# EAGLE library part DF11-8DP-2DS(52) (library DF11)
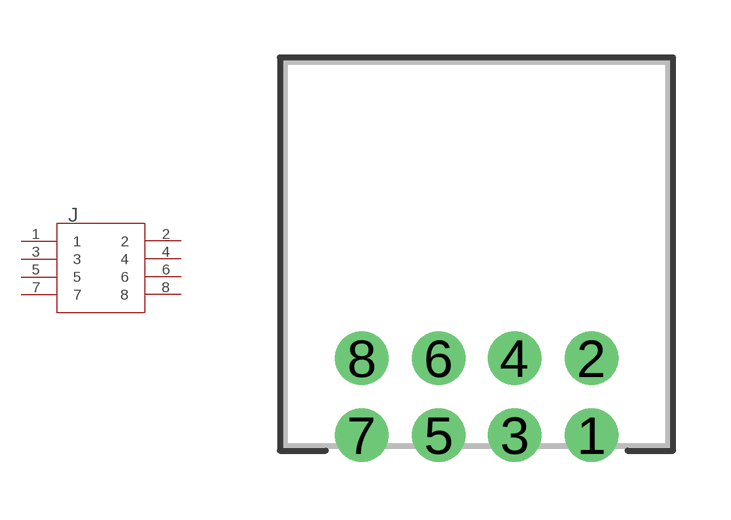
[diagram p0: symbol with the pads of CON8_2X4_RF_DF11; footprint CON8_2X4_RF_DF11]

Designator prefix J

## DF11-8DP-2DS(52) (MANUFACTURER_PART_NUMBER: DF118DP2DS52; VENDOR: Hirose)  [CON8_2X4_RF_DF11]
1  1  pas
2  2  pas
3  3  pas
4  4  pas
5  5  pas
6  6  pas
7  7  pas
8  8  pas

## Footprint CON8_2X4_RF_DF11 (pad centres in mm)
drill 0.813 pad 1.397: 1 8.026,0.279; 2 8.026,2.286; 3 6.02,0.279; 4 6.02,2.286; 5 4.039,0.279; 6 4.039,2.286; 7 2.032,0.279; 8 2.032,2.286